# Altium schematic symbol library TPD2EUSB30ADRTR.SchLib: 1 symbol
Pins are listed as number, name and electrical type; pins without a type are passive.

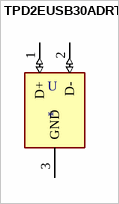
[diagram p0: symbol TPD2EUSB30ADRTR]

## TPD2EUSB30ADRTR
designator U
2-Channel ESD/Surge Solution for High-Speed Low-Voltage Interface; MF: Texas Instruments; MP: TPD2EUSB30ADRTR; DigiKey-Purchase-URL: https://snapeda.com/shop?store=DigiKey&id=186330; Texas_Instruments-Purchase-URL: https://snapeda.com/shop?store=Texas+Instruments&id=186330; Mouser-Purchase-URL: https://snapeda.com/shop?store=Mouser&id=186330; Value: *; Arrow_Electronics-Purchase-URL: https://snapeda.com/shop?store=Arrow+Electronics&id=186330; Price: None; Availability: Unavailable; Package: SOT-9X3-3 Texas Instruments; SnapEDA_Link: https://www.snapeda.com/parts/TPD2EUSB30ADRTR/Texas%20Instruments/view-part/186330/?ref=snap
footprint SOTFL35P100X50-3N
pins: 1 D+ (io), 2 D- (io), 3 GND (power)